# Altium footprint library Misc.PcbLib: 20 footprints (part 2 of 2)
Each footprint in its own frame and in the unit in brackets; x right, y up, seen from the top. Pads: shape width x height; smd on the part's side, far side on the other; paste and mask are expansions set on the pad; w line width, h text height; cw(c..) or ccw(c..) is an arc to the next point about the centre after c.
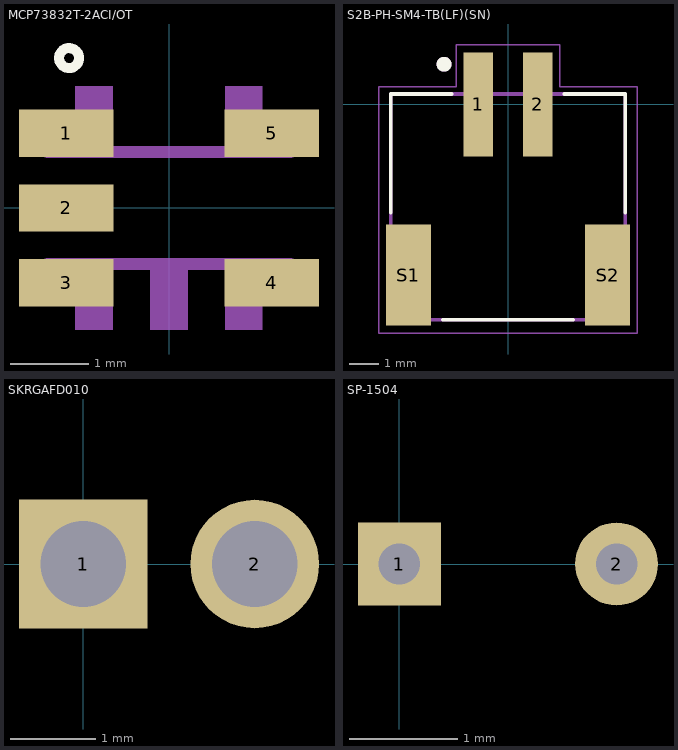
[diagram p1: the footprints below, top view; thin cyan lines are the x and y axes]

## MCP73832T-2ACI/OT [mm]
pads (5):
  rect 1.2x0.6 smd: 1(-1.306,0.95) 2(-1.306,0) 3(-1.306,-0.95) 4(1.306,-0.95) 5(1.306,0.95)
Top Overlay:
  circle w0.127: c-1.27,1.905 r0.127
Mechanical 13:
  region: 1.188,-1.548 0.714,-1.548 0.714,-0.712 1.188,-0.712
  region: 0.238,-1.546 -0.238,-1.546 -0.238,-0.712 0.238,-0.712
  region: -0.713,-1.546 -1.189,-1.546 -1.189,-0.712 -0.713,-0.712
  region: 1.188,0.714 0.714,0.714 0.714,1.544 1.188,1.544
  region: -0.713,0.713 -1.188,0.713 -1.188,1.544 -0.713,1.544
  lines w0.152: -1.544,-0.712 1.544,-0.712 ; -1.544,0.713 1.544,0.713

## S2B-PH-SM4-TB(LF)(SN) [mm]
pads (4):
  rect 1x3.5 smd: 1(-1,0) 2(1,0)
  rect 1.5x3.4 smd: S1(-3.35,-5.75) S2(3.35,-5.75)
Top Overlay:
  circle w0.3: c-2.15,1.35 r0.1
  lines w0.127: -3.95,-3.65 -3.95,0.35 -1.9,0.35 ; -2.2,-7.25 2.2,-7.25 ; 1.9,0.35 3.95,0.35 3.95,-3.65
Mechanical 13:
  circle w0.3: c-2.15,1.35 r0.1
  lines w0.127: -3.95,-7.25 -3.95,0.35 3.95,0.35 3.95,-7.25 -3.95,-7.25
Mechanical 15:
  lines w0.05: -4.35,-7.7 -4.35,0.6 -1.75,0.6 -1.75,2 1.75,2 1.75,0.6 4.35,0.6 4.35,-7.7 -4.35,-7.7

## SKRGAFD010 [mm] "Tactile Switches 50 mAmps at 12 Volts"
pads (2):
  rect 1.5x1.5 hole 1: 1(0,0)
  round 1.5 hole 1: 2(2,0)

## SP-1504 [mil]
pads (2):
  rect 30x30 hole 15: 1(0,0)
  round 30 hole 15: 2(78.74,0)